# Altium schematic symbol library NX3225SA.Schlib: 1 symbol
Pins are listed as number, name and electrical type; pins without a type are passive.

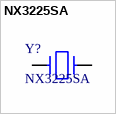
[diagram p0: symbol NX3225SA]

## NX3225SA
designator Y?
12MHZ
pins: 1, 2 hidden to GND, 3, 4 hidden to GND